# Altium footprint library NWE18DHRN-T9410Mate.PcbLib: 1 footprints
Each footprint in its own frame and in the unit in brackets; x right, y up, seen from the top. Pads: shape width x height; smd on the part's side, far side on the other; paste and mask are expansions set on the pad; w line width, h text height; cw(c..) or ccw(c..) is an arc to the next point about the centre after c.
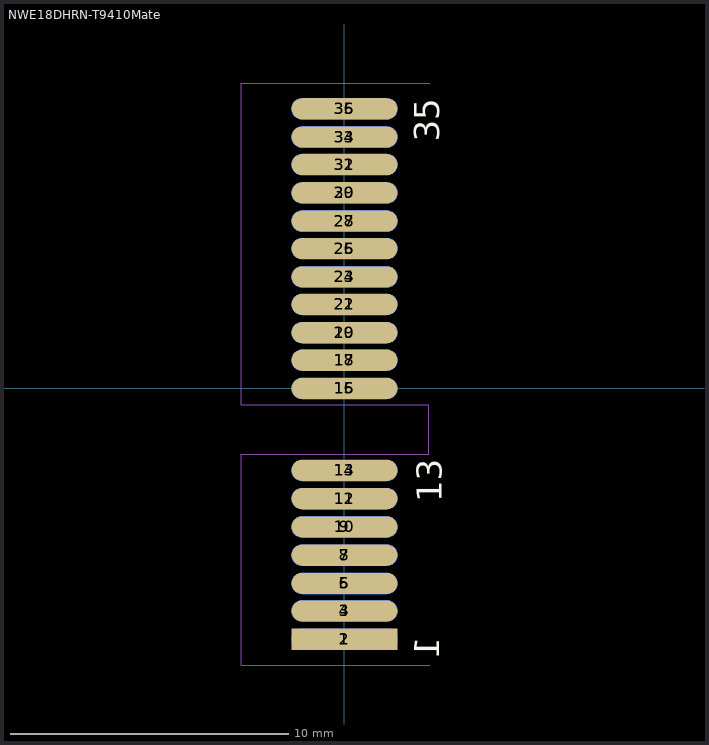
[diagram p0: the footprint, top view; thin cyan lines are the x and y axes]

## NWE18DHRN-T9410Mate [mil]
pads (36):
  rect 150x30 smd: 1(0,-355)
  oval 150x30 smd far side: 2(0,-355) 4(0,-315) 6(0,-276) 8(0,-236) 10(0,-196) 12(0,-156) 14(0,-116) 16(0,0) 18(0,40) 20(0,79) 22(0,119) 24(0,158) 26(0,198) 28(0,237) 30(0,277) 32(0,317) 34(0,356) 36(0,396)
  oval 150x30 smd: 3(0,-315) 5(0,-276) 7(0,-236) 9(0,-196) 11(0,-156) 13(0,-116) 15(0,0) 17(0,40) 19(0,79) 21(0,119) 23(0,158) 25(0,198) 27(0,237) 29(0,277) 31(0,317) 33(0,356) 35(0,396)
Top Overlay:
  text "1" at 134,-352 h35
  text "13" at 138,-161 h35
  text "35" at 134,349 h35
Bottom Overlay:
  text "2" at 134,-344 h35
  text "14" at 137,-109 h35
  text "36" at 134,408 h35
Mechanical 1:
  lines w1: 121,-392 -146,-392 -146,-93 119,-93 119,-23 -146,-23 -146,432 121,432